# Altium schematic symbol library DIODE_SCHOTTKY.Schlib: 1 symbol
Pins are listed as number, name and electrical type; pins without a type are passive.

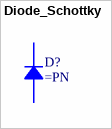
[diagram p0: symbol Diode_Schottky]

## Diode_Schottky
designator D?
Schottky Diode
pins: 1, 2